# Altium integrated library Celestial Library.IntLib: 439 symbols (part 11 of 20)

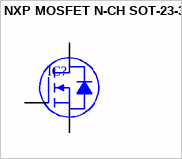
[diagram p230: symbol NXP MOSFET N-CH SOT-23-3]

## NXP MOSFET N-CH SOT-23-3
designator IC?
pins: 1 G, 2 S, 3 D


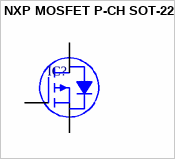
[diagram p231: symbol NXP MOSFET P-CH SOT-223]

## NXP MOSFET P-CH SOT-223
designator IC?
pins: 1 G, 2 D, 3 S, 4 D


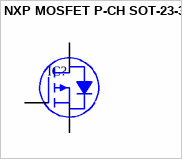
[diagram p232: symbol NXP MOSFET P-CH SOT-23-3]

## NXP MOSFET P-CH SOT-23-3
designator IC?
pins: 1 G, 2 S, 3 D


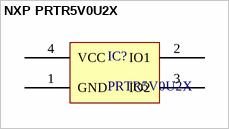
[diagram p233: symbol NXP PRTR5V0U2X]

## NXP PRTR5V0U2X
designator IC?, comment PRTR5V0U2X
Ultra low capacitance double rail-to-rail ESD protection diode
pins: 1 GND, 2 IO1, 3 IO2, 4 VCC


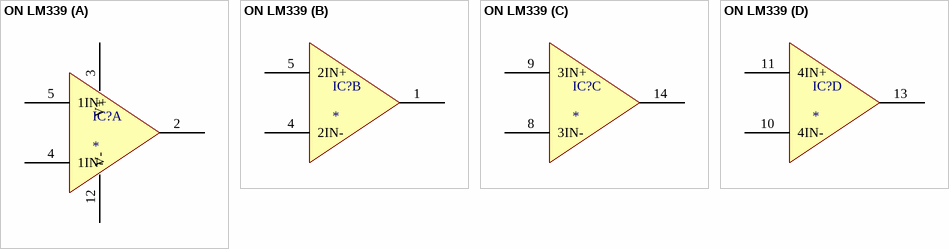
[diagram p234: symbol ON LM339]

## ON LM339
designator IC?
part A pins: 2 1OUT, 3 V+ (power), 4 1IN-, 5 1IN+, 12 V- (power)
part B pins: 1 2OUT, 4 2IN-, 5 2IN+
part C pins: 8 3IN-, 9 3IN+, 14 3OUT
part D pins: 10 4IN-, 11 4IN+, 13 4OUT


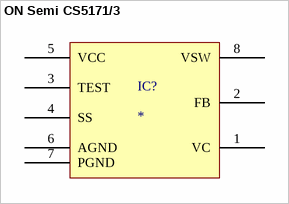
[diagram p235: symbol ON Semi CS5171/3]

## ON Semi CS5171/3
designator IC?
pins: 1 VC, 2 FB, 3 TEST, 4 SS, 5 VCC, 6 AGND, 7 PGND, 8 VSW


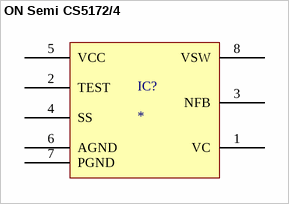
[diagram p236: symbol ON Semi CS5172/4]

## ON Semi CS5172/4
designator IC?
pins: 1 VC, 2 TEST, 3 NFB, 4 SS, 5 VCC, 6 AGND, 7 PGND, 8 VSW


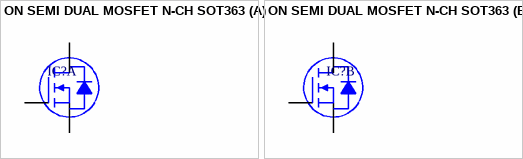
[diagram p237: symbol ON SEMI DUAL MOSFET N-CH SOT363]

## ON SEMI DUAL MOSFET N-CH SOT363
designator IC?
part A pins: 1 S1, 2 G1, 6 D1
part B pins: 3 D2, 4 S2, 5 G2


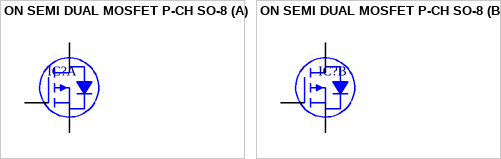
[diagram p238: symbol ON SEMI DUAL MOSFET P-CH SO-8]

## ON SEMI DUAL MOSFET P-CH SO-8
designator IC?
part A pins: 1 S1, 2 G1, 7 D1, 8 D1
part B pins: 3 S2, 4 G2, 5 D2, 6 D2


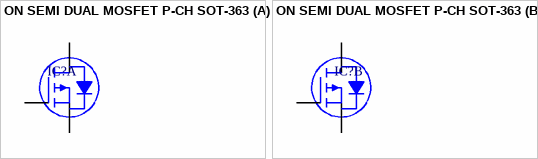
[diagram p239: symbol ON SEMI DUAL MOSFET P-CH SOT-363]

## ON SEMI DUAL MOSFET P-CH SOT-363
designator IC?
part A pins: 1 S1, 2 G1, 6 D1
part B pins: 3 D2, 4 S2, 5 G2


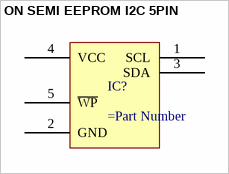
[diagram p240: symbol ON SEMI EEPROM I2C 5PIN]

## ON SEMI EEPROM I2C 5PIN
designator IC?
pins: 1 SCL, 2 GND, 3 SDA, 4 VCC, 5 ~{WP}


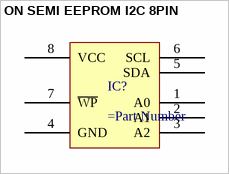
[diagram p241: symbol ON SEMI EEPROM I2C 8PIN]

## ON SEMI EEPROM I2C 8PIN
designator IC?
pins: 1 A0, 2 A1, 3 A2, 4 GND, 5 SDA, 6 SCL, 7 ~{WP}, 8 VCC


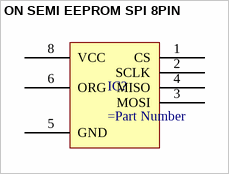
[diagram p242: symbol ON SEMI EEPROM SPI 8PIN]

## ON SEMI EEPROM SPI 8PIN
designator IC?
pins: 1 CS, 2 SCLK, 3 MOSI, 4 MISO, 5 GND, 6 ORG, 8 VCC


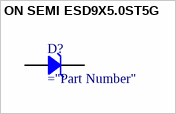
[diagram p243: symbol ON SEMI ESD9X5.0ST5G]

## ON SEMI ESD9X5.0ST5G
designator D?
Rectifier Diode
pins: 1 A, 2 K


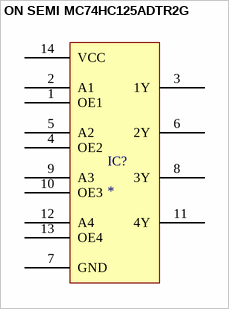
[diagram p244: symbol ON SEMI MC74HC125ADTR2G]

## ON SEMI MC74HC125ADTR2G
designator IC?
pins: 1 OE1, 2 A1, 3 1Y, 4 OE2, 5 A2, 6 2Y, 7 GND, 8 3Y, 9 A3, 10 OE3, 11 4Y, 12 A4, 13 OE4, 14 VCC


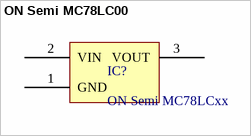
[diagram p245: symbol ON Semi MC78LC00]

## ON Semi MC78LC00
designator IC?, comment ON Semi MC78LCxx
Micropower Voltage  Regulator
pins: 1 GND, 2 VIN, 3 VOUT


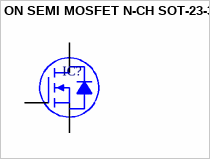
[diagram p246: symbol ON SEMI MOSFET N-CH SOT-23-3]

## ON SEMI MOSFET N-CH SOT-23-3
designator IC?
pins: 1 G, 2 S, 3 D


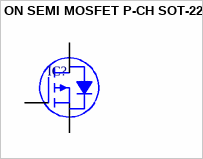
[diagram p247: symbol ON SEMI MOSFET P-CH SOT-223]

## ON SEMI MOSFET P-CH SOT-223
designator IC?
pins: 1 G, 2 D, 3 S, 4 D


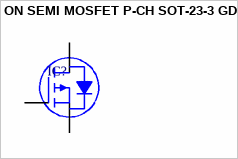
[diagram p248: symbol ON SEMI MOSFET P-CH SOT-23-3 GDS]

## ON SEMI MOSFET P-CH SOT-23-3 GDS
designator IC?
pins: 1 G, 2 S, 3 D


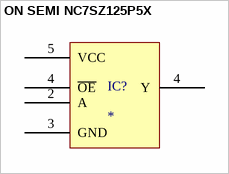
[diagram p249: symbol ON SEMI NC7SZ125P5X]

## ON SEMI NC7SZ125P5X
designator IC?
pins: 2 A, 3 GND, 4 Y, 4 ~{OE}, 5 VCC


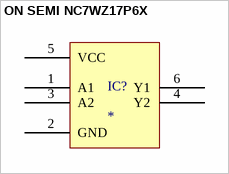
[diagram p250: symbol ON SEMI NC7WZ17P6X]

## ON SEMI NC7WZ17P6X
designator IC?
pins: 1 A1, 2 GND, 3 A2, 4 Y2, 5 VCC, 6 Y1


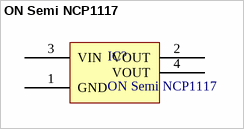
[diagram p251: symbol ON Semi NCP1117]

## ON Semi NCP1117
designator IC?
1.0A Low-Dropout Positive Fixed and Adjustable Voltage Regulators
pins: 1 GND, 2 VOUT, 3 VIN, 4 VOUT


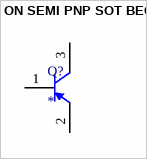
[diagram p252: symbol ON SEMI PNP SOT BEC]

## ON SEMI PNP SOT BEC
designator Q?
pins: 1 B, 2 E, 3 C
